# Altium schematic symbol library HTST-110-01-L-DV.SchLib: 1 symbol
Pins are listed as number, name and electrical type; pins without a type are passive.

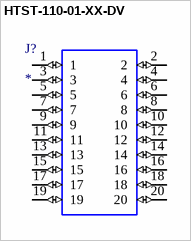
[diagram p0: symbol HTST-110-01-XX-DV]

## HTST-110-01-XX-DV
designator J?
HIGH TEMP TOP SHROUD.; MP: HTST-110-01-XX-DV; MF: {'manufacturer': u'Samtec'}; Value: *; Price: None; Availability: Unavailable; Package: None
footprint HTST-110-01-XX-DV
pins: 1 (io), 2 (io), 3 (io), 4 (io), 5 (io), 6 (io), 7 (io), 8 (io), 9 (io), 10 (io), 11 (io), 12 (io), 13 (io), 14 (io), 15 (io), 16 (io), 17 (io), 18 (io), 19 (io), 20 (io)